# EAGLE library part LT3460ESC6TRMPBF (library LT3460ESC6TRMPBF)
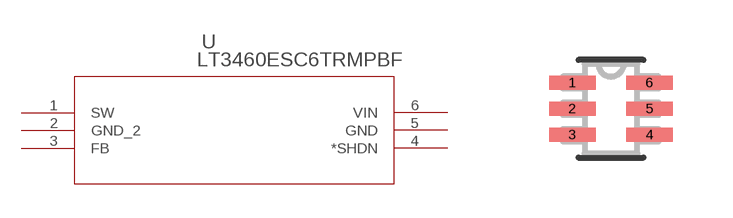
[diagram p0: symbol with the pads of SC70-SC6; footprint SC70-SC6]

Designator prefix U

## LT3460ESC6TRMPBF (Description: LT3460 - 1.3 MHz/650kHz Step-Up DC/DC Converter in SC70 and ThinSOT; Digi-Key_Part_Number: LT3460ESC6#TRMPBFCT-ND; Digi-Key_Purchase_URL: https://www.digikey.de/product-detail/en/linear-technology-analog-devices/LT3460ESC6-TRMPBF/LT3460ESC6-TRMPBFCT-ND/5114690?utm_source=snapeda&utm_medium=aggregator&utm_campaign=symbol; MF: Linear Technology/Analog; MP: LT3460ESC6#TRMPBF; Package: SC-70 Linear Technology)  [SC70-SC6]
1  SW  pas
2  GND_2  pwr
3  FB  pas
4  *SHDN  pas
5  GND  pwr
6  VIN  in

## Footprint SC70-SC6 (pad centres in mm)
smd 1.168 x 0.356: 1 -0.965,0.65; 2 -0.965,0; 3 -0.965,-0.65; 4 0.965,-0.65; 5 0.965,0; 6 0.965,0.65